# Altium integrated library BB Interface Carrier Multi-wire Interface.IntLib: 14 symbols
Pins are listed as number, name and electrical type; pins without a type are passive.

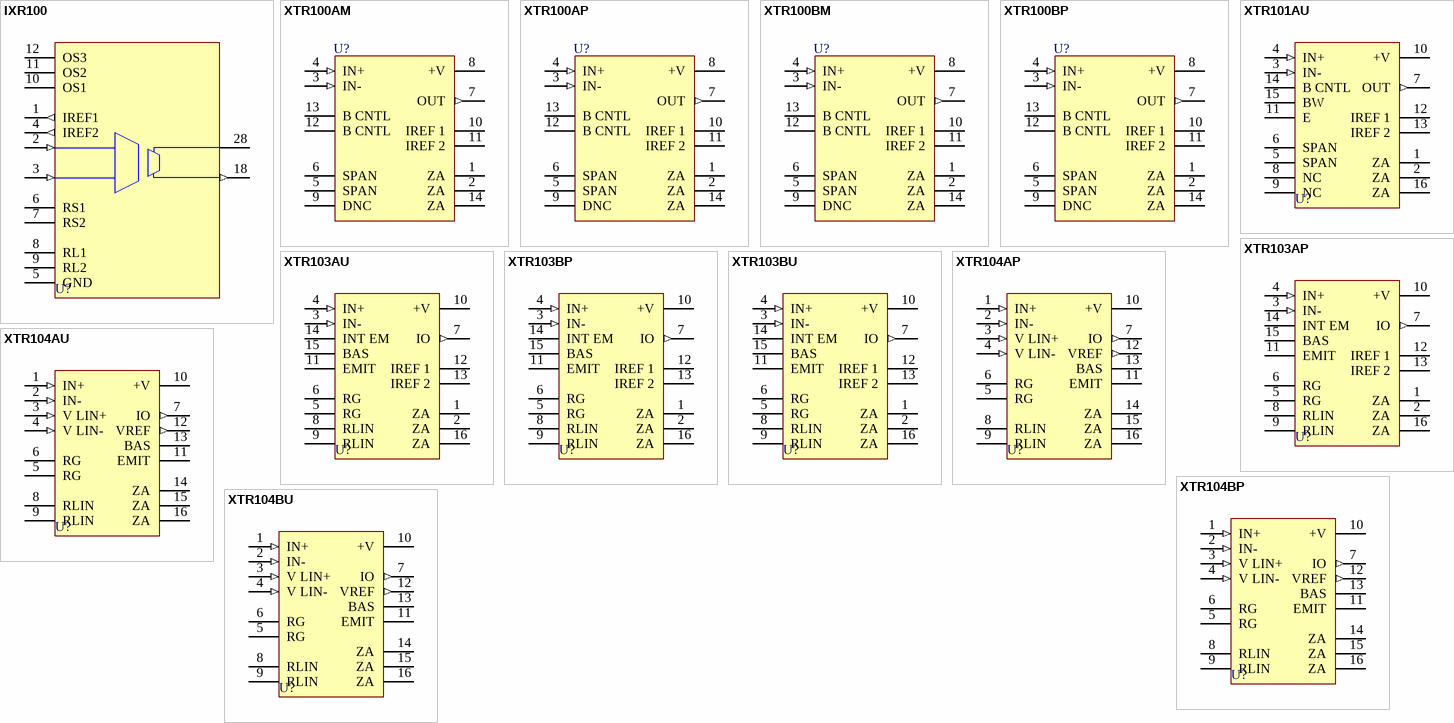
[diagram p0: symbols IXR100 to XTR104BU]

## IXR100
designator U?
Isolated, Self-Powered, Temperature Sensor Conditioning 4-20mA Two-Wire Transmitter; Note: Pins absent from positions 13 to 17 and 19 to 27.; Published: 8-Jun-2000; LatestRevisionDate: 17-Jul-2002; LatestRevisionNote: Re-released for DXP Platform.; DatasheetVersion: 1996~1997; PackageVersion: 1996/1997; PackageReference: ZZ901; Publisher: Altium Limited; PackageDescription: DIP; 28 Rectangular pins (14 Absent); Row Space 15.24 mm; Pitch 2.54 mm; ComponentLink1Description: Manufacturer Link; ComponentLink1URL: http://www.ti.com/
footprint ZZ901 (DIP; 28 Rectangular pins (14 Absent); Row Space 15.24 mm; Pitch 2.54 mm)
pins: 1 IREF1 (out), 2 IN+ (in), 3 IN- (in), 4 IREF2 (out), 5 GND (power), 6 RS1, 7 RS2, 8 RL1, 9 RL2, 10 OS1, 11 OS2, 12 OS3, 18 OUT (out), 28 +V (power)

## XTR100AM
designator U?
Precision, Low Drift 4mA to 20mA Two-Wire Transmitter; Note: Do not connect pin 9; Published: 8-Jun-2000; LatestRevisionDate: 17-Jul-2002; LatestRevisionNote: Re-released for DXP Platform.; DatasheetVersion: 1989; PackageVersion: 1994; PackageReference: ZZ107; Publisher: Altium Limited; PackageDescription: DIP; 14 Round Pins; Row Space 7.62 mm; Pitch 2.54 mm; ComponentLink1Description: Manufacturer Link; ComponentLink1URL: http://www.ti.com/
footprint ZZ107 (DIP; 14 Round Pins; Row Space 7.62 mm; Pitch 2.54 mm)
pins: 1 ZA, 2 ZA, 3 IN- (in), 4 IN+ (in), 5 SPAN, 6 SPAN, 7 OUT (out), 8 +V (power), 9 DNC, 10 IREF 1, 11 IREF 2, 12 B CNTL, 13 B CNTL, 14 ZA

## XTR100AP
designator U?
Precision, Low Drift 4mA to 20mA Two-Wire Transmitter; Note: Do not connect pin 9; Published: 8-Jun-2000; LatestRevisionDate: 17-Jul-2002; LatestRevisionNote: Re-released for DXP Platform.; DatasheetVersion: 1989; PackageVersion: 1995; PackageReference: ZZ003; Publisher: Altium Limited; PackageDescription: DIP; 14 Round Pins; Row Space 7.62 mm; Pitch 2.54 mm; ComponentLink1Description: Manufacturer Link; ComponentLink1URL: http://www.ti.com/
footprint ZZ003 (DIP; 14 Round Pins; Row Space 7.62 mm; Pitch 2.54 mm)
pins: 1 ZA, 2 ZA, 3 IN- (in), 4 IN+ (in), 5 SPAN, 6 SPAN, 7 OUT (out), 8 +V (power), 9 DNC, 10 IREF 1, 11 IREF 2, 12 B CNTL, 13 B CNTL, 14 ZA

## XTR100BM
designator U?
Precision, Low Drift 4mA to 20mA Two-Wire Transmitter; Note: Do not connect pin 9; Published: 8-Jun-2000; LatestRevisionDate: 17-Jul-2002; LatestRevisionNote: Re-released for DXP Platform.; DatasheetVersion: 1989; PackageVersion: 1994; PackageReference: ZZ107; Publisher: Altium Limited; PackageDescription: DIP; 14 Round Pins; Row Space 7.62 mm; Pitch 2.54 mm; ComponentLink1Description: Manufacturer Link; ComponentLink1URL: http://www.ti.com/
footprint ZZ107 (DIP; 14 Round Pins; Row Space 7.62 mm; Pitch 2.54 mm)
pins: 1 ZA, 2 ZA, 3 IN- (in), 4 IN+ (in), 5 SPAN, 6 SPAN, 7 OUT (out), 8 +V (power), 9 DNC, 10 IREF 1, 11 IREF 2, 12 B CNTL, 13 B CNTL, 14 ZA

## XTR100BP
designator U?
Precision, Low Drift 4mA to 20mA Two-Wire Transmitter; Note: Do not connect pin 9; Published: 8-Jun-2000; LatestRevisionDate: 17-Jul-2002; LatestRevisionNote: Re-released for DXP Platform.; DatasheetVersion: 1989; PackageVersion: 1995; PackageReference: ZZ003; Publisher: Altium Limited; PackageDescription: DIP; 14 Round Pins; Row Space 7.62 mm; Pitch 2.54 mm; ComponentLink1Description: Manufacturer Link; ComponentLink1URL: http://www.ti.com/
footprint ZZ003 (DIP; 14 Round Pins; Row Space 7.62 mm; Pitch 2.54 mm)
pins: 1 ZA, 2 ZA, 3 IN- (in), 4 IN+ (in), 5 SPAN, 6 SPAN, 7 OUT (out), 8 +V (power), 9 DNC, 10 IREF 1, 11 IREF 2, 12 B CNTL, 13 B CNTL, 14 ZA

## XTR101AU
designator U?
Precision, Low Drift 4-20mA Two-Wire Transmitter; Note: Pins 8 and 9 are No internal Connection (NC) pins.; Published: 8-Jun-2000; LatestRevisionDate: 13-Apr-2006; LatestRevisionNote: IPC-7351 Footprint Added.; DatasheetVersion: Oct-1993; PackageReference: 211F; Publisher: Altium Limited; PackageDescription: 16-Pin Small Outline Integrated Circuit 1.27 mm Pitch; Code_JEDEC: MS-013-AA; Code_IPC: SOIC127P1030-16; ComponentLink1Description: Manufacturer Link; ComponentLink1URL: http://www.ti.com/; ComponentLink2Description: Datasheet; ComponentLink2URL: http://www-s.ti.com/sc/ds/XTR101.pdf
footprint 211F_N (SOIC, 16-Leads, Body 10.3x7.5mm, Pitch 1.27mm, IPC Medium Density)
footprint 211F_L (SOIC, 16-Leads, Body 10.3x7.5mm, Pitch 1.27mm, IPC High Density)
footprint 211F_M (SOIC, 16-Leads, Body 10.3x7.5mm, Pitch 1.27mm, IPC Low Density)
3D model SOIC16 (16-Pin Small Outline Integrated Circuit 1.27 mm Pitch)
pins: 1 ZA, 2 ZA, 3 IN- (in), 4 IN+ (in), 5 SPAN, 6 SPAN, 7 OUT (out), 8 NC, 9 NC, 10 +V (power), 11 E, 12 IREF 1, 13 IREF 2, 14 B CNTL, 15 BW, 16 ZA

## XTR103AP
designator U?
4-20mA Current Transmitter with RTD Excitation and Linearization; Published: 8-Jun-2000; LatestRevisionDate: 06-Jun-2005; LatestRevisionNote: Stylized 3D Model Added.; DatasheetVersion: Oct-1993; PackageVersion: revF; PackageReference: ZZ180; Publisher: Altium Limited; PackageDescription: DIP, Plastic; 16 Leads; Row Spacing 7.62 mm; Pitch 2.54 mm; Code_JEDEC: MS-001-BB; ComponentLink1Description: Manufacturer Link; ComponentLink1URL: http://www.ti.com/; ComponentLink2Description: Datasheet; ComponentLink2URL: http://www-s.ti.com/sc/ds/XTR103.pdf
footprint ZZ180 (DIP, Plastic; 16 Leads; Row Spacing 7.62 mm; Pitch 2.54 mm)
3D model ZZ180 (DIP, Plastic; 16 Leads; Row Spacing 7.62 mm; Pitch 2.54 mm)
pins: 1 ZA, 2 ZA, 3 IN- (in), 4 IN+ (in), 5 RG, 6 RG, 7 IO (out), 8 RLIN, 9 RLIN, 10 +V (power), 11 EMIT, 12 IREF 1, 13 IREF 2, 14 INT EM, 15 BAS, 16 ZA

## XTR103AU
designator U?
4-20mA Current Transmitter with RTD Excitation and Linearization; Published: 8-Jun-2000; LatestRevisionDate: 13-Apr-2006; LatestRevisionNote: IPC-7351 Footprint Added.; DatasheetVersion: Oct-1993; PackageReference: 211F; Publisher: Altium Limited; PackageDescription: 16-Pin Small Outline Integrated Circuit 1.27 mm Pitch; Code_JEDEC: MS-013-AA; Code_IPC: SOIC127P1030-16; ComponentLink1Description: Manufacturer Link; ComponentLink1URL: http://www.ti.com/; ComponentLink2Description: Datasheet; ComponentLink2URL: http://www-s.ti.com/sc/ds/XTR103.pdf
footprint 211F_N (SOIC, 16-Leads, Body 10.3x7.5mm, Pitch 1.27mm, IPC Medium Density)
footprint 211F_L (SOIC, 16-Leads, Body 10.3x7.5mm, Pitch 1.27mm, IPC High Density)
footprint 211F_M (SOIC, 16-Leads, Body 10.3x7.5mm, Pitch 1.27mm, IPC Low Density)
3D model SOIC16 (16-Pin Small Outline Integrated Circuit 1.27 mm Pitch)
pins: 1 ZA, 2 ZA, 3 IN- (in), 4 IN+ (in), 5 RG, 6 RG, 7 IO (out), 8 RLIN, 9 RLIN, 10 +V (power), 11 EMIT, 12 IREF 1, 13 IREF 2, 14 INT EM, 15 BAS, 16 ZA

## XTR103BP
designator U?
4-20mA Current Transmitter with RTD Excitation and Linearization; Published: 8-Jun-2000; LatestRevisionDate: 06-Jun-2005; LatestRevisionNote: Stylized 3D Model Added.; DatasheetVersion: Oct-1993; PackageVersion: revF; PackageReference: ZZ180; Publisher: Altium Limited; PackageDescription: DIP, Plastic; 16 Leads; Row Spacing 7.62 mm; Pitch 2.54 mm; Code_JEDEC: MS-001-BB; ComponentLink1Description: Manufacturer Link; ComponentLink1URL: http://www.ti.com/; ComponentLink2Description: Datasheet; ComponentLink2URL: http://www-s.ti.com/sc/ds/XTR103.pdf
footprint ZZ180 (DIP, Plastic; 16 Leads; Row Spacing 7.62 mm; Pitch 2.54 mm)
3D model ZZ180 (DIP, Plastic; 16 Leads; Row Spacing 7.62 mm; Pitch 2.54 mm)
pins: 1 ZA, 2 ZA, 3 IN- (in), 4 IN+ (in), 5 RG, 6 RG, 7 IO (out), 8 RLIN, 9 RLIN, 10 +V (power), 11 EMIT, 12 IREF 1, 13 IREF 2, 14 INT EM, 15 BAS, 16 ZA

## XTR103BU
designator U?
4-20mA Current Transmitter with RTD Excitation and Linearization; Published: 8-Jun-2000; LatestRevisionDate: 13-Apr-2006; LatestRevisionNote: IPC-7351 Footprint Added.; DatasheetVersion: Oct-1993; PackageReference: 211F; Publisher: Altium Limited; PackageDescription: 16-Pin Small Outline Integrated Circuit 1.27 mm Pitch; Code_JEDEC: MS-013-AA; Code_IPC: SOIC127P1030-16; ComponentLink1Description: Manufacturer Link; ComponentLink1URL: http://www.ti.com/; ComponentLink2Description: Datasheet; ComponentLink2URL: http://www-s.ti.com/sc/ds/XTR103.pdf
footprint 211F_N (SOIC, 16-Leads, Body 10.3x7.5mm, Pitch 1.27mm, IPC Medium Density)
footprint 211F_L (SOIC, 16-Leads, Body 10.3x7.5mm, Pitch 1.27mm, IPC High Density)
footprint 211F_M (SOIC, 16-Leads, Body 10.3x7.5mm, Pitch 1.27mm, IPC Low Density)
3D model SOIC16 (16-Pin Small Outline Integrated Circuit 1.27 mm Pitch)
pins: 1 ZA, 2 ZA, 3 IN- (in), 4 IN+ (in), 5 RG, 6 RG, 7 IO (out), 8 RLIN, 9 RLIN, 10 +V (power), 11 EMIT, 12 IREF 1, 13 IREF 2, 14 INT EM, 15 BAS, 16 ZA

## XTR104AP
designator U?
4-20mA Current Transmitter with Bridge Excitation and Linearization; Published: 8-Jun-2000; LatestRevisionDate: 06-Jun-2005; LatestRevisionNote: Stylized 3D Model Added.; DatasheetVersion: Sep-1992; PackageVersion: revF; PackageReference: ZZ180; Publisher: Altium Limited; PackageDescription: DIP, Plastic; 16 Leads; Row Spacing 7.62 mm; Pitch 2.54 mm; Code_JEDEC: MS-001-BB; ComponentLink1Description: Manufacturer Link; ComponentLink1URL: http://www.ti.com/; ComponentLink2Description: Datasheet; ComponentLink2URL: http://www-s.ti.com/sc/ds/XTR104.pdf
footprint ZZ180 (DIP, Plastic; 16 Leads; Row Spacing 7.62 mm; Pitch 2.54 mm)
3D model ZZ180 (DIP, Plastic; 16 Leads; Row Spacing 7.62 mm; Pitch 2.54 mm)
pins: 1 IN+ (in), 2 IN- (in), 3 V LIN+ (in), 4 V LIN- (in), 5 RG, 6 RG, 7 IO (out), 8 RLIN, 9 RLIN, 10 +V (power), 11 EMIT, 12 VREF (out), 13 BAS, 14 ZA, 15 ZA, 16 ZA

## XTR104AU
designator U?
4-20mA Current Transmitter with Bridge Excitation and Linearization; Published: 8-Jun-2000; LatestRevisionDate: 13-Apr-2006; LatestRevisionNote: IPC-7351 Footprint Added.; DatasheetVersion: Sep-1992; PackageReference: 211F; Publisher: Altium Limited; PackageDescription: 16-Pin Small Outline Integrated Circuit 1.27 mm Pitch; Code_JEDEC: MS-013-AA; Code_IPC: SOIC127P1030-16; ComponentLink1Description: Manufacturer Link; ComponentLink1URL: http://www.ti.com/; ComponentLink2Description: Datasheet; ComponentLink2URL: http://www-s.ti.com/sc/ds/XTR104.pdf
footprint 211F_N (SOIC, 16-Leads, Body 10.3x7.5mm, Pitch 1.27mm, IPC Medium Density)
footprint 211F_L (SOIC, 16-Leads, Body 10.3x7.5mm, Pitch 1.27mm, IPC High Density)
footprint 211F_M (SOIC, 16-Leads, Body 10.3x7.5mm, Pitch 1.27mm, IPC Low Density)
3D model SOIC16 (16-Pin Small Outline Integrated Circuit 1.27 mm Pitch)
pins: 1 IN+ (in), 2 IN- (in), 3 V LIN+ (in), 4 V LIN- (in), 5 RG, 6 RG, 7 IO (out), 8 RLIN, 9 RLIN, 10 +V (power), 11 EMIT, 12 VREF (out), 13 BAS, 14 ZA, 15 ZA, 16 ZA

## XTR104BP
designator U?
4-20mA Current Transmitter with Bridge Excitation and Linearization; Published: 8-Jun-2000; LatestRevisionDate: 06-Jun-2005; LatestRevisionNote: Stylized 3D Model Added.; DatasheetVersion: Sep-1992; PackageVersion: revF; PackageReference: ZZ180; Publisher: Altium Limited; PackageDescription: DIP, Plastic; 16 Leads; Row Spacing 7.62 mm; Pitch 2.54 mm; Code_JEDEC: MS-001-BB; ComponentLink1Description: Manufacturer Link; ComponentLink1URL: http://www.ti.com/; ComponentLink2Description: Datasheet; ComponentLink2URL: http://www-s.ti.com/sc/ds/XTR104.pdf
footprint ZZ180 (DIP, Plastic; 16 Leads; Row Spacing 7.62 mm; Pitch 2.54 mm)
3D model ZZ180 (DIP, Plastic; 16 Leads; Row Spacing 7.62 mm; Pitch 2.54 mm)
pins: 1 IN+ (in), 2 IN- (in), 3 V LIN+ (in), 4 V LIN- (in), 5 RG, 6 RG, 7 IO (out), 8 RLIN, 9 RLIN, 10 +V (power), 11 EMIT, 12 VREF (out), 13 BAS, 14 ZA, 15 ZA, 16 ZA

## XTR104BU
designator U?
4-20mA Current Transmitter with Bridge Excitation and Linearization; Published: 8-Jun-2000; LatestRevisionDate: 13-Apr-2006; LatestRevisionNote: IPC-7351 Footprint Added.; DatasheetVersion: Sep-1992; PackageReference: 211F; Publisher: Altium Limited; PackageDescription: 16-Pin Small Outline Integrated Circuit 1.27 mm Pitch; Code_JEDEC: MS-013-AA; Code_IPC: SOIC127P1030-16; ComponentLink1Description: Manufacturer Link; ComponentLink1URL: http://www.ti.com/; ComponentLink2Description: Datasheet; ComponentLink2URL: http://www-s.ti.com/sc/ds/XTR104.pdf
footprint 211F_N (SOIC, 16-Leads, Body 10.3x7.5mm, Pitch 1.27mm, IPC Medium Density)
footprint 211F_L (SOIC, 16-Leads, Body 10.3x7.5mm, Pitch 1.27mm, IPC High Density)
footprint 211F_M (SOIC, 16-Leads, Body 10.3x7.5mm, Pitch 1.27mm, IPC Low Density)
3D model SOIC16 (16-Pin Small Outline Integrated Circuit 1.27 mm Pitch)
pins: 1 IN+ (in), 2 IN- (in), 3 V LIN+ (in), 4 V LIN- (in), 5 RG, 6 RG, 7 IO (out), 8 RLIN, 9 RLIN, 10 +V (power), 11 EMIT, 12 VREF (out), 13 BAS, 14 ZA, 15 ZA, 16 ZA